# Altium schematic symbol library Blue.SchLib: 10 symbols
Pins are listed as number, name and electrical type; pins without a type are passive.

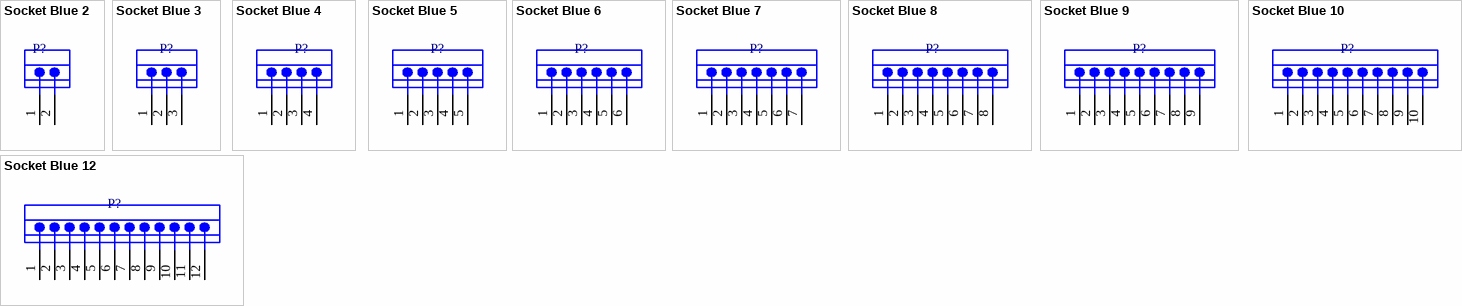
[diagram p0: symbols Socket Blue 2 to Socket Blue 12]

## Socket Blue 2
designator P?
DatasheetVersion: 2022
footprint Socket Blue 2
pins: 1, 2

## Socket Blue 3
designator P?
DatasheetVersion: 2022
footprint Socket Blue 3
pins: 1, 2, 3

## Socket Blue 4
designator P?
DatasheetVersion: 2022
footprint Socket Blue 4
pins: 1, 2, 3, 4

## Socket Blue 5
designator P?
DatasheetVersion: 2022
footprint Socket Blue 5
pins: 1, 2, 3, 4, 5

## Socket Blue 6
designator P?
DatasheetVersion: 2022
footprint socket blue 6
pins: 1, 2, 3, 4, 5, 6

## Socket Blue 7
designator P?
DatasheetVersion: 2022
footprint Socket Blue 7
pins: 1, 2, 3, 4, 5, 6, 7

## Socket Blue 8
designator P?
DatasheetVersion: 2022
footprint Socket Blue 8
pins: 1, 2, 3, 4, 5, 6, 7, 8

## Socket Blue 9
designator P?
DatasheetVersion: 2022
footprint Socket Blue 9
pins: 1, 2, 3, 4, 5, 6, 7, 8, 9

## Socket Blue 10
designator P?
DatasheetVersion: 2022
footprint Socket Blue 10
pins: 1, 2, 3, 4, 5, 6, 7, 8, 9, 10

## Socket Blue 12
designator P?
DatasheetVersion: 2022
footprint Socket Blue 12
pins: 1, 2, 3, 4, 5, 6, 7, 8, 9, 10, 11, 12